# EAGLE library part OPENAG_I2C_TCA9548APWR (library PFCEDU_V3)
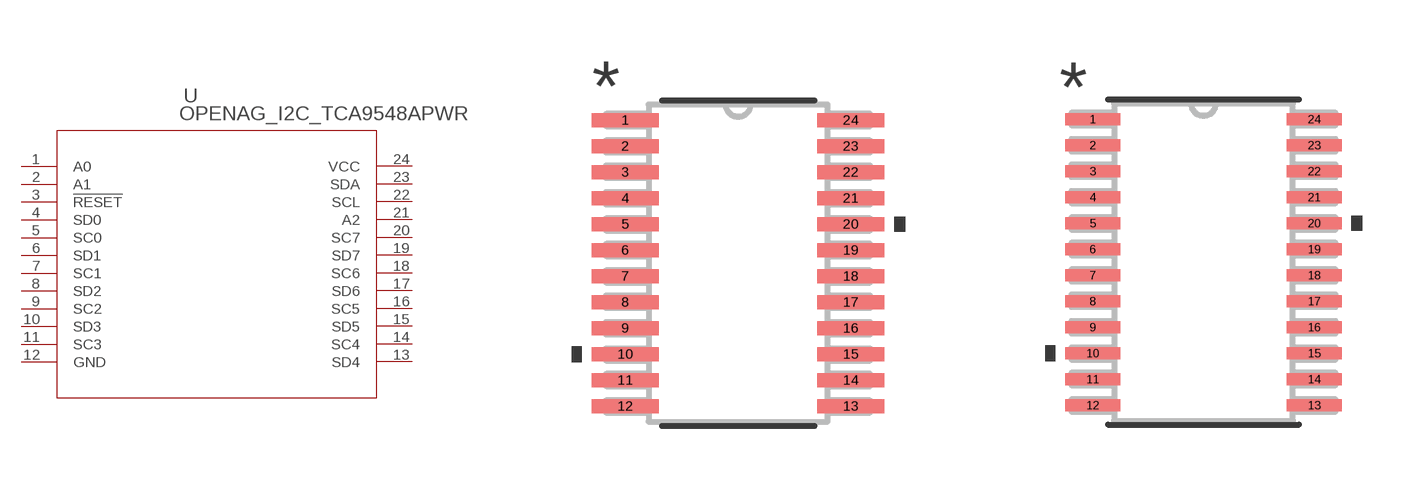
[diagram p0: symbol with the pads of OPENAG_I2C_PW24; footprints OPENAG_I2C_PW24, OPENAG_I2C_PW24-L]

Designator prefix U

## OPENAG_I2C_TCA9548APWR (MANUFACTURER_PART_NUMBER: TCA9548APWR; VENDOR: TEXAS INSTRUMENTS)  [OPENAG_I2C_PW24]
1  A0  in
2  A1  in
3  !RESET  in
4  SD0  pas
5  SC0  pas
6  SD1  pas
7  SC1  pas
8  SD2  pas
9  SC2  pas
10  SD3  pas
11  SC3  pas
12  GND  pwr
13  SD4  pas
14  SC4  pas
15  SD5  pas
16  SC5  pas
17  SD6  pas
18  SC6  pas
19  SD7  pas
20  SC7  pas
21  A2  in
22  SCL  pas
23  SDA  pas
24  VCC  pwr

## OPENAG_I2C_TCA9548APWRPW24-L (MANUFACTURER_PART_NUMBER: TCA9548APWR; VENDOR: TEXAS INSTRUMENTS)  [OPENAG_I2C_PW24-L]
Pads as for OPENAG_I2C_PW24

## OPENAG_I2C_TCA9548APWRPW24-M (MANUFACTURER_PART_NUMBER: TCA9548APWR; VENDOR: TEXAS INSTRUMENTS)  [OPENAG_I2C_PW24-M]
Pads as for OPENAG_I2C_PW24

## Footprint OPENAG_I2C_PW24 (pad centres in mm)
smd 1.676 x 0.356: 1 -2.819,3.575; 2 -2.819,2.925; 3 -2.819,2.275; 4 -2.819,1.625; 5 -2.819,0.975; 6 -2.819,0.325; 7 -2.819,-0.325; 8 -2.819,-0.975; 9 -2.819,-1.625; 10 -2.819,-2.275; 11 -2.819,-2.925; 12 -2.819,-3.575; 13 2.819,-3.575; 14 2.819,-2.925; 15 2.819,-2.275; 16 2.819,-1.625; 17 2.819,-0.975; 18 2.819,-0.325; 19 2.819,0.325; 20 2.819,0.975; 21 2.819,1.625; 22 2.819,2.275; 23 2.819,2.925; 24 2.819,3.575

## Footprint OPENAG_I2C_PW24-L (pad centres in mm)
smd 1.372 x 0.305: 1 -2.769,3.575; 2 -2.769,2.925; 3 -2.769,2.275; 4 -2.769,1.625; 5 -2.769,0.975; 6 -2.769,0.325; 7 -2.769,-0.325; 8 -2.769,-0.975; 9 -2.769,-1.625; 10 -2.769,-2.275; 11 -2.769,-2.925; 12 -2.769,-3.575; 13 2.769,-3.575; 14 2.769,-2.925; 15 2.769,-2.275; 16 2.769,-1.625; 17 2.769,-0.975; 18 2.769,-0.325; 19 2.769,0.325; 20 2.769,0.975; 21 2.769,1.625; 22 2.769,2.275; 23 2.769,2.925; 24 2.769,3.575

## Footprint OPENAG_I2C_PW24-M (pad centres in mm)
smd 1.981 x 0.406: 1 -2.87,3.575; 2 -2.87,2.925; 3 -2.87,2.275; 4 -2.87,1.625; 5 -2.87,0.975; 6 -2.87,0.325; 7 -2.87,-0.325; 8 -2.87,-0.975; 9 -2.87,-1.625; 10 -2.87,-2.275; 11 -2.87,-2.925; 12 -2.87,-3.575; 13 2.87,-3.575; 14 2.87,-2.925; 15 2.87,-2.275; 16 2.87,-1.625; 17 2.87,-0.975; 18 2.87,-0.325; 19 2.87,0.325; 20 2.87,0.975; 21 2.87,1.625; 22 2.87,2.275; 23 2.87,2.925; 24 2.87,3.575